# Altium footprint library PCB - CONNECTOR - SAMTEC TFM-104-02-XXX-D-A-Y.PCBLIB: 1 footprints
Each footprint in its own frame and in the unit in brackets; x right, y up, seen from the top. Pads: shape width x height; smd on the part's side, far side on the other; paste and mask are expansions set on the pad; w line width, h text height; cw(c..) or ccw(c..) is an arc to the next point about the centre after c.
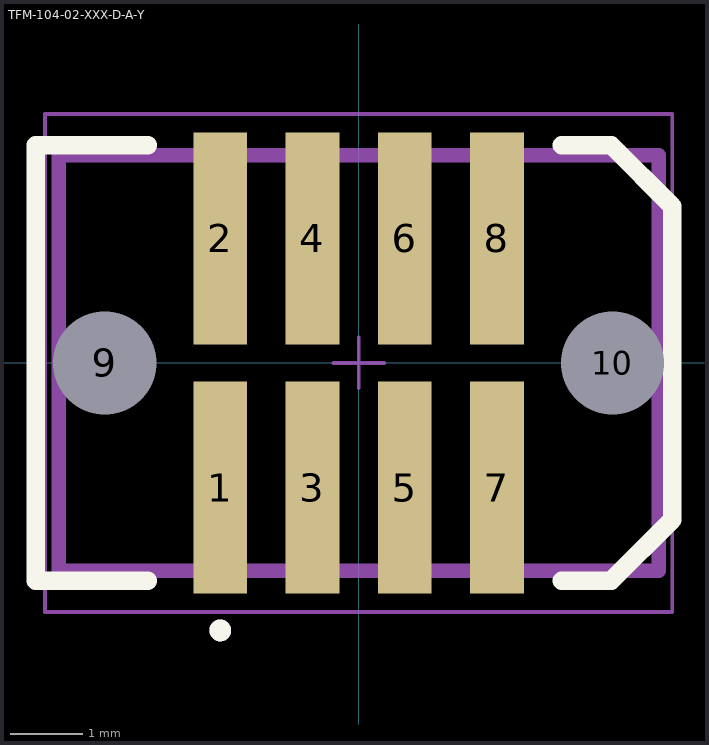
[diagram p0: the footprint, top view; thin cyan lines are the x and y axes]

## TFM-104-02-XXX-D-A-Y [mm]
pads (10):
  rect 0.74x2.92 smd: 1(-1.905,-1.715) 2(-1.905,1.715) 3(-0.635,-1.715) 4(-0.635,1.715) 5(0.635,-1.715) 6(0.635,1.715) 7(1.905,-1.715) 8(1.905,1.715)
  round 0.71 hole 1.42 unplated: 9(-3.495,0) 10(3.495,0)
Top Overlay:
  circle w0.2: c-1.905,-3.683 r0.05
  lines w0.254: -2.9,-3 -4.445,-3 -4.445,3 -2.9,3 ; 2.8,-3 3.477,-3 4.318,-2.159 4.318,2.159 3.477,3 2.8,3
Top Assembly:
  circle w0.2: c-1.905,-3.683 r0.05
  lines w0.2: -4.13,-2.86 -4.13,2.86 4.13,2.86 4.13,-2.86 -4.13,-2.86
Top Courtyard:
  lines w0.05: -4.318,-3.429 -4.318,3.429 4.318,3.429 4.318,-3.429 -4.318,-3.429
Top Designator:
  text ".Designator" at -0.508,-0.381 h1
Top Component Center:
  lines w0.05: -0.35,0 0.35,0 ; 0,-0.35 0,0.35
3D body "TFM-104-02-L-D-A-K.stp": height 5.71, standoff -1.14, extent -4.064,-2.984 4.191,2.985